# EAGLE library part RASPBERRY-PI-PICO (library Module)
Raspberry Pi Pico Created by: Wai Weng
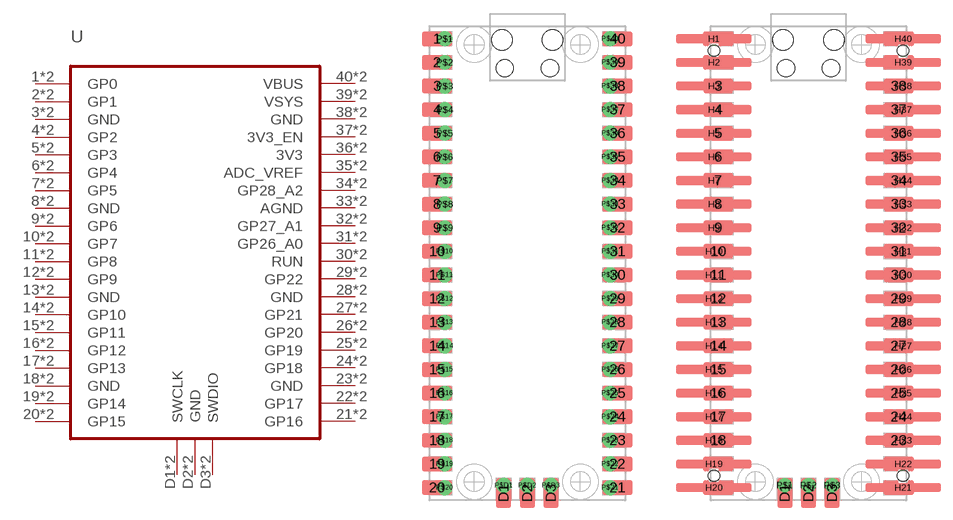
[diagram p17: symbol with the pads of RASPBERRY-PI-PICO; footprints RASPBERRY-PI-PICO, RASPBERRY-PI-PICO-DOUBLE-ROW-HEADER]

Designator prefix U

## RASPBERRY-PI-PICO_(SMD) (DESC: Raspberry Pi Pico; MF: RPI; MPN: RPI Pico)  [RASPBERRY-PI-PICO]
1  GP0
2  GP1
3  GND
4  GP2
5  GP3
6  GP4
7  GP5
8  GND
9  GP6
10  GP7
11  GP8
12  GP9
13  GND
14  GP10
15  GP11
16  GP12
17  GP13
18  GND
19  GP14
20  GP15
21  GP16
22  GP17
23  GND
24  GP18
25  GP19
26  GP20
27  GP21
28  GND
29  GP22
30  RUN
31  GP26_A0
32  GP27_A1
33  AGND
34  GP28_A2
35  ADC_VREF
36  3V3
37  3V3_EN
38  GND
39  VSYS
40  VBUS
D1  SWCLK
D2  GND
D3  SWDIO
P$1  GP0
P$2  GP1
P$3  GND
P$4  GP2
P$5  GP3
P$6  GP4
P$7  GP5
P$8  GND
P$9  GP6
P$10  GP7
P$11  GP8
P$12  GP9
P$13  GND
P$14  GP10
P$15  GP11
P$16  GP12
P$17  GP13
P$18  GND
P$19  GP14
P$20  GP15
P$21  GP16
P$22  GP17
P$23  GND
P$24  GP18
P$25  GP19
P$26  GP20
P$27  GP21
P$28  GND
P$29  GP22
P$30  RUN
P$31  GP26_A0
P$32  GP27_A1
P$33  AGND
P$34  GP28_A2
P$35  ADC_VREF
P$36  3V3
P$37  3V3_EN
P$38  GND
P$39  VSYS
P$40  VBUS
P$D1  SWCLK
P$D2  GND
P$D3  SWDIO

## RASPBERRY-PI-PICO_(HYBRID) (DESC: Raspberry Pi Pico; MF: RPI; MPN: RPI Pico)  [RASPBERRY-PI-PICO-DOUBLE-ROW-HEADER]
3  GND
4  GP2
5  GP3
6  GP4
7  GP5
8  GND
9  GP6
10  GP7
11  GP8
12  GP9
13  GND
14  GP10
15  GP11
16  GP12
17  GP13
18  GND
23  GND
24  GP18
25  GP19
26  GP20
27  GP21
28  GND
29  GP22
30  RUN
31  GP26_A0
32  GP27_A1
33  AGND
34  GP28_A2
35  ADC_VREF
36  3V3
37  3V3_EN
38  GND
D1  SWCLK
D2  GND
D3  SWDIO
H1  GP0
H2  GP1
H3  GND
H4  GP2
H5  GP3
H6  GP4
H7  GP5
H8  GND
H9  GP6
H10  GP7
H11  GP8
H12  GP9
H13  GND
H14  GP10
H15  GP11
H16  GP12
H17  GP13
H18  GND
H19  GP14
H20  GP15
H21  GP16
H22  GP17
H23  GND
H24  GP18
H25  GP19
H26  GP20
H27  GP21
H28  GND
H29  GP22
H30  RUN
H31  GP26_A0
H32  GP27_A1
H33  AGND
H34  GP28_A2
H35  ADC_VREF
H36  3V3
H37  3V3_EN
H38  GND
H39  VSYS
H40  VBUS
P$1  SWCLK
P$2  GND
P$3  SWDIO

## Footprint RASPBERRY-PI-PICO (pad centres in mm)
Raspberry Pi Pico Created by: Wai Weng
smd 3.2 x 1.6: 1 -9.69,24.13; 2 -9.69,21.59; 3 -9.69,19.05; 4 -9.69,16.51; 5 -9.69,13.97; 6 -9.69,11.43; 7 -9.69,8.89; 8 -9.69,6.35; 9 -9.69,3.81; 10 -9.69,1.27; 11 -9.69,-1.27; 12 -9.69,-3.81; 13 -9.69,-6.35; 14 -9.69,-8.89; 15 -9.69,-11.43; 16 -9.69,-13.97; 17 -9.69,-16.51; 18 -9.69,-19.05; 19 -9.69,-21.59; 20 -9.69,-24.13; 21 9.69,-24.13; 22 9.69,-21.59; 23 9.69,-19.05; 24 9.69,-16.51; 25 9.69,-13.97; 26 9.69,-11.43; 27 9.69,-8.89; 28 9.69,-6.35; 29 9.69,-3.81; 30 9.69,-1.27; 31 9.69,1.27; 32 9.69,3.81; 33 9.69,6.35; 34 9.69,8.89; 35 9.69,11.43; 36 9.69,13.97; 37 9.69,16.51; 38 9.69,19.05; 39 9.69,21.59; 40 9.69,24.13
smd 1.6 x 3.2: D1 -2.54,-24.7; D2 0,-24.7; D3 2.54,-24.7
drill 1 pad 1.6: P$1 -8.89,24.13; P$2 -8.89,21.59; P$3 -8.89,19.05; P$4 -8.89,16.51; P$5 -8.89,13.97; P$6 -8.89,11.43; P$7 -8.89,8.89; P$8 -8.89,6.35; P$9 -8.89,3.81; P$10 -8.89,1.27; P$11 -8.89,-1.27; P$12 -8.89,-3.81; P$13 -8.89,-6.35; P$14 -8.89,-8.89; P$15 -8.89,-11.43; P$16 -8.89,-13.97; P$17 -8.89,-16.51; P$18 -8.89,-19.05; P$19 -8.89,-21.59; P$20 -8.89,-24.13; P$21 8.89,-24.13; P$22 8.89,-21.59; P$23 8.89,-19.05; P$24 8.89,-16.51; P$25 8.89,-13.97; P$26 8.89,-11.43; P$27 8.89,-8.89; P$28 8.89,-6.35; P$29 8.89,-3.81; P$30 8.89,-1.27; P$31 8.89,1.27; P$32 8.89,3.81; P$33 8.89,6.35; P$34 8.89,8.89; P$35 8.89,11.43; P$36 8.89,13.97; P$37 8.89,16.51; P$38 8.89,19.05; P$39 8.89,21.59; P$40 8.89,24.13; P$D1 -2.54,-23.9; P$D2 0,-23.9; P$D3 2.54,-23.9
hole 2.2 at -2.725,24
hole 2.2 at 2.725,24
hole 1.85 at -2.425,20.97
hole 1.85 at 2.425,20.97

## Footprint RASPBERRY-PI-PICO-DOUBLE-ROW-HEADER (pad centres in mm)
Raspberry Pi Pico with solder pad and double row female header. Created by: Wai Weng
smd 3.2 x 1.6: 3 -9.69,19.05; 4 -9.69,16.51; 5 -9.69,13.97; 6 -9.69,11.43; 7 -9.69,8.89; 8 -9.69,6.35; 9 -9.69,3.81; 10 -9.69,1.27; 11 -9.69,-1.27; 12 -9.69,-3.81; 13 -9.69,-6.35; 14 -9.69,-8.89; 15 -9.69,-11.43; 16 -9.69,-13.97; 17 -9.69,-16.51; 18 -9.69,-19.05; 23 9.69,-19.05; 24 9.69,-16.51; 25 9.69,-13.97; 26 9.69,-11.43; 27 9.69,-8.89; 28 9.69,-6.35; 29 9.69,-3.81; 30 9.69,-1.27; 31 9.69,1.27; 32 9.69,3.81; 33 9.69,6.35; 34 9.69,8.89; 35 9.69,11.43; 36 9.69,13.97; 37 9.69,16.51; 38 9.69,19.05
smd 1.6 x 3.2: D1 -2.54,-24.7; D2 0,-24.7; D3 2.54,-24.7
smd 8.128 x 1.02: H1 -10.16,24.13; H2 -10.16,21.59; H3 -10.16,19.05; H4 -10.16,16.51; H5 -10.16,13.97; H6 -10.16,11.43; H7 -10.16,8.89; H8 -10.16,6.35; H9 -10.16,3.81; H10 -10.16,1.27; H11 -10.16,-1.27; H12 -10.16,-3.81; H13 -10.16,-6.35; H14 -10.16,-8.89; H15 -10.16,-11.43; H16 -10.16,-13.97; H17 -10.16,-16.51; H18 -10.16,-19.05; H19 -10.16,-21.59; H20 -10.16,-24.13; H21 10.16,-24.13; H22 10.16,-21.59; H23 10.16,-19.05; H24 10.16,-16.51; H25 10.16,-13.97; H26 10.16,-11.43; H27 10.16,-8.89; H28 10.16,-6.35; H29 10.16,-3.81; H30 10.16,-1.27; H31 10.16,1.27; H32 10.16,3.81; H33 10.16,6.35; H34 10.16,8.89; H35 10.16,11.43; H36 10.16,13.97; H37 10.16,16.51; H38 10.16,19.05; H39 10.16,21.59; H40 10.16,24.13
drill 1: P$1 -2.54,-23.9; P$2 0,-23.9; P$3 2.54,-23.9
hole 2.2 at -2.725,24
hole 2.2 at 2.725,24
hole 1.85 at -2.425,20.97
hole 1.85 at 2.425,20.97
hole 1.2 at -10.16,-22.86
hole 1.2 at -10.16,22.86
hole 1.2 at 10.16,-22.86
hole 1.2 at 10.16,22.86